# Altium footprint library SparkFun-PowerSymbols.PCBLIB: 1 footprints
Each footprint in its own frame and in the unit in brackets; x right, y up, seen from the top. Pads: shape width x height; smd on the part's side, far side on the other; paste and mask are expansions set on the pad; w line width, h text height; cw(c..) or ccw(c..) is an arc to the next point about the centre after c.
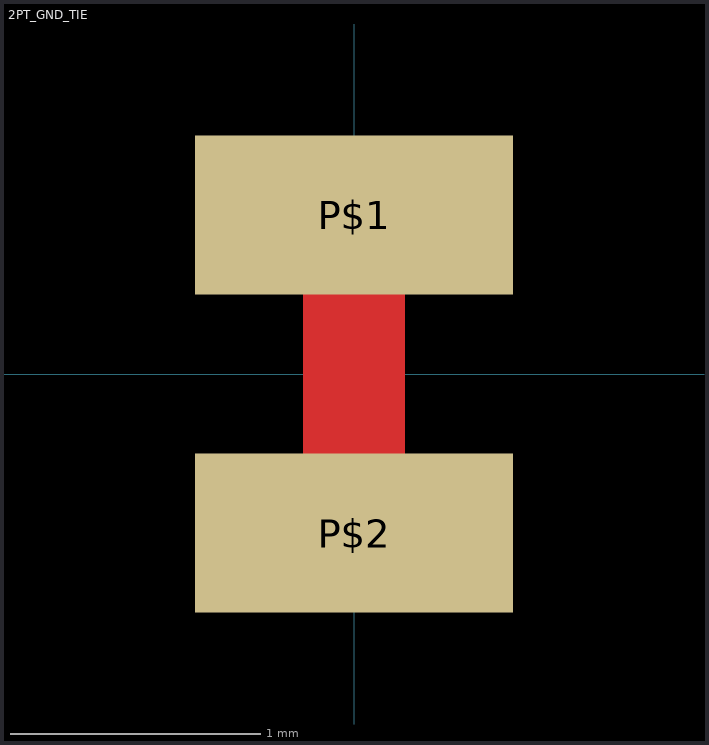
[diagram p0: the footprint, top view; thin cyan lines are the x and y axes]

## 2PT_GND_TIE [mil]
pads (2):
  rect 50x25 smd paste+0 mask+0: P$1(0,25) P$2(0,-25)
Top:
  lines w16: 0,-25 0,25